# EAGLE library part MCP3002-I/SN (library Microchip-MCP3002-I_SN)
Dual Channel 10-Bit A/D Converter
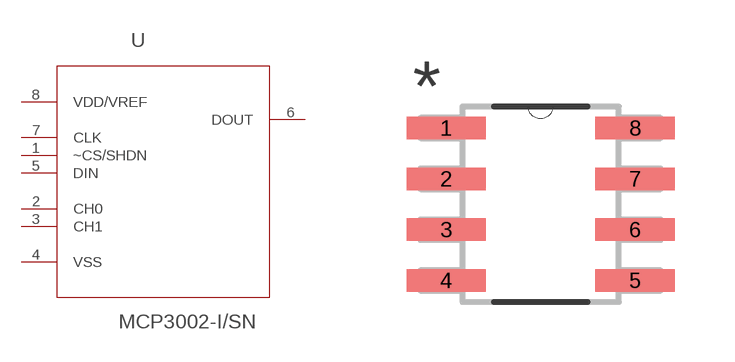
[diagram p0: symbol with the pads of SOIC127P600X175-8N; footprint SOIC127P600X175-8N]

Designator prefix -

## MCP3002-I/SN (DESCRIPTION: Dual Channel 10-Bit A/D Converter; MPN: MCP3002-I/SN; OC_FARNELL: 1834969; OC_NEWARK: 59K0225; PACKAGE: SOIC-8; SUPPLIER: Microchip)  [SOIC127P600X175-8N]
1  ~CS/SHDN  in
2  CH0  in
3  CH1  in
4  VSS  pwr
5  DIN  in
6  DOUT  out
7  CLK  in
8  VDD/VREF  pwr

## Footprint SOIC127P600X175-8N (pad centres in mm)
smd 1.981 x 0.559: 1 -2.362,1.905; 2 -2.362,0.635; 3 -2.362,-0.635; 4 -2.362,-1.905; 5 2.362,-1.905; 6 2.362,-0.635; 7 2.362,0.635; 8 2.362,1.905